# EAGLE library part 74AUP1G57 (library nxp_60)
Low-power configurable gate The 74AUP1G57 provides configurable multiple functions. The output state is determined by eight patterns of 3-bit input. The user can choose the logic functions AND, OR, NAND, NOR, XNOR, inverter, and buffer. All inputs can be connected to VCC or GND. This device ensures a very low static and dynamic power consumption across the entire VCC range from 0.8 V to 3.6 V. This device is fully specified for partial power-down applications using IOFF. The IOFF circuitry disables the output, preventing the damaging backflow current through the device when it is powered down. The 74AUP1G57 has Schmitt trigger inputs making it capable of transforming slowly changing input signals into sharply defined, jitter-free output signals. The inputs switch at different points for positive and negative-going signals. The difference between the positive voltage VT+ and the negative voltage VT- is defined as the input hysteresis voltage VH. AAL Eindhoven MK
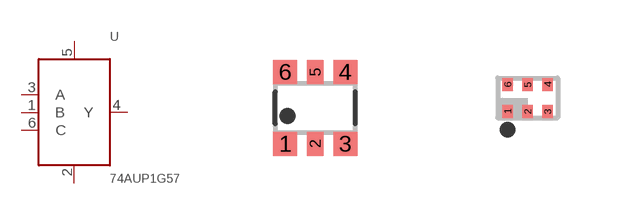
[diagram p62: symbol with the pads of SOT363; footprints SOT363, SOT886]

Designator prefix U

## 74AUP1G57GW (12NC: 9352 799 57125)  [SOT363]
1  B  in
2  GND  pwr
3  A  in
4  Y  out
5  VCC  pwr
6  C  in

## 74AUP1G57GM (12NC: 9352 799 58132)  [SOT886]
Pads as for SOT363

## 74AUP1G57GF (12NC: 9352 813 28132)  [SOT891]
Pads as for SOT363

## 74AUP1G57GS (12NC: 9352 928 67132)  [SOT1202]
Pads as for SOT363

## 74AUP1G57GN (I2C: 9352 917 43132)  [SOT1115]
Pads as for SOT363

## Footprint SOT363 (pad centres in mm)
SOT363 Plastic surface-mounted package; 6 leads JEDEC: -- IEC: -- JEITA: SC-88
smd 0.6 x 0.6: 1 -0.75,-0.9; 3 0.75,-0.9; 4 0.75,0.9; 6 -0.75,0.9
smd 0.4 x 0.6: 2 0,-0.9; 5 0,0.9

## Footprint SOT886 (pad centres in mm)
SOT886 XSON6: plastic extremely thin small outline package; no leads; 6 terminals; body 1 x 1.45 x 0.5 mm JEDEC: MO-252 IEC: ---
smd 0.27 x 0.325: 1 -0.5,-0.338; 2 0,-0.338; 3 0.5,-0.338; 4 0.5,0.338; 5 0,0.338; 6 -0.5,0.338

## Footprint SOT891 (pad centres in mm)
SOT891 XSON6: plastic extremely thin small outline package; no leads; 6 terminals; body 1 x 1 x 0.5 mm JEDEC: -- IEC: ---
smd 0.15 x 0.5: 1 -0.35,-0.35; 2 0,-0.35; 3 0.35,-0.35; 4 0.35,0.35; 5 0,0.35; 6 -0.35,0.35

## Footprint SOT1202 (pad centres in mm)
SOT1202 XSON6: extremely thin small outline package; no leads; 6 terminals; body 1.0 x 1.0 x 0.35 mm JEDEC: --- IEC: ---
smd 0.15 x 0.5: 1 -0.35,-0.35; 2 0,-0.35; 3 0.35,-0.35; 4 0.35,0.35; 5 0,0.35; 6 -0.35,0.35

## Footprint SOT1115 (pad centres in mm)
!!!!!!Experimental, not tested!!!!!!!!!!!! MK SOT1115 XSON6: extremely thin small outline package; no leads; 6 terminals; body 0.9 x 1.0 x 0.35 mm JEDEC: -- IEC: -- JEITA: --
smd 0.22 x 0.325: 1 -0.3,-0.312; 2 0,-0.312; 3 0.3,-0.312; 4 0.3,0.312; 5 0,0.312; 6 -0.3,0.312